# Altium schematic symbol library RC0603FR07470RP.SchLib: 1 symbol
Pins are listed as number, name and electrical type; pins without a type are passive.

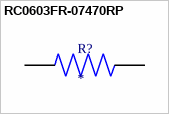
[diagram p0: symbol RC0603FR-07470RP]

## RC0603FR-07470RP
designator R?
RES SMD 470 OHM 1% 1/10W 0603; MF: {'manufacturer': u'Yageo Corporation'}; MP: RC0603FR-07470RP; Package: None; Price: None; Value: *; Availability: Unavailable
footprint RESC1608X55N
pins: 1, 2